# Altium integrated library Linear Technology Power Management Energy Harvesting.IntLib: 169 symbols (part 13 of 13)
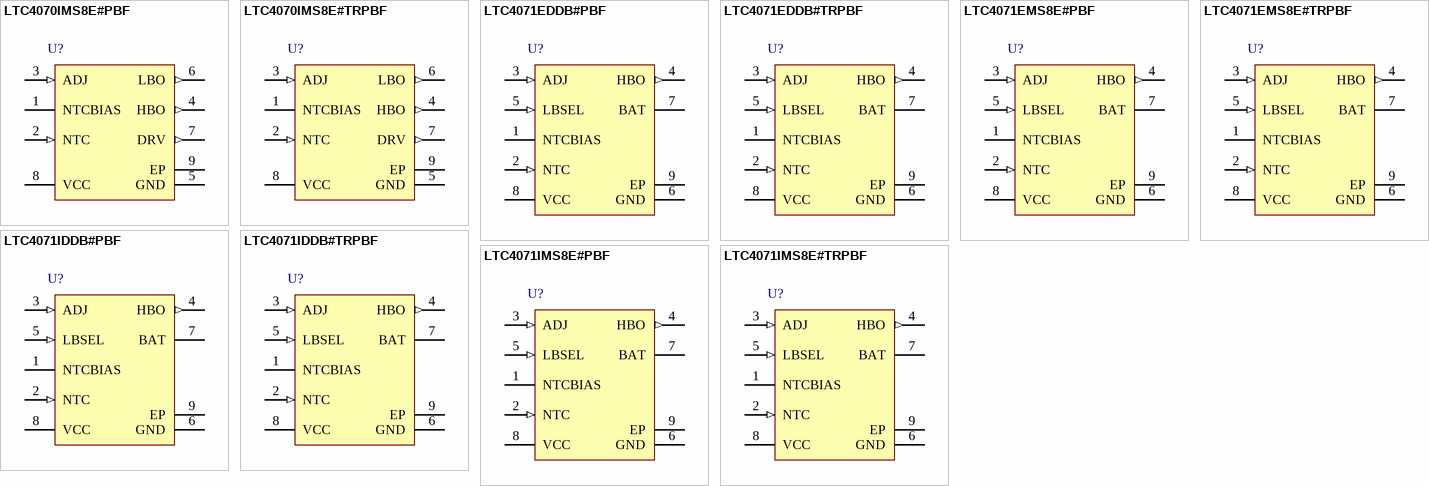
[diagram p17: symbols LTC4070IMS8E#PBF to LTC4071IMS8E#TRPBF]

## LTC4071IDDB#TRPBF
designator U?
Li-Ion / Polymer Shunt Battery Charger System with Low Battery Disconnect, 8-pin SON (DDB-8), -40 to 125 degC, Pb-Free, Tape and Reel; Manufacturer: Linear Technology; PartNumber: LTC4071IDDB#TRPBF; Number of Outputs: 1; DatasheetVersion: Rev. C; PackageVersion: Rev. B, 06/2010; PackageReference: DDB-8; PackageDescription: 8-Pin Plastic DFN, Body 3 x 2 mm, Pitch 0.5 mm; Supplier 1: Digi-Key; Supplier Part Number 1: LTC4071IDDB#TRPBF-ND; Packing: Tape and Reel; RoHS: TRUE; Topology: Shunt Battery Charger; Mounting Technology: Surface Mount; Code_JEDEC: MO-229; ComponentLink1Description: Manufacturer URL; ComponentLink1URL: http://www.linear.com/; ComponentLink2Description: Datasheet; ComponentLink2URL: http://cds.linear.com/docs/en/datasheet/4071fc.pdf; ComponentLink3Description: Package Specification; ComponentLink3URL: http://cds.linear.com/docs/en/packaging/DFN_8_05-08-1702.pdf
footprint LT-DDB-8_V (SON, 8-Leads, Body 3x2mm, Pitch 0.5mm, Thermal Pad 2.2x0.61mm)
pins: 1 NTCBIAS "NTC Bias Pin. Connect a resistor from NTCBIAS to NTC, and a thermistor from NTC to GND. Float NTCBIAS when not in use. Minimize parasitic capacitance on this pin.", 2 NTC (in) "Input to the Negative Temperature Coefficient Thermistor Monitoring Circuit. The NTC pin connects to a negative temperature coefficient thermistor which is typically co-packaged with the battery to determine the temperature (See Datasheet)", 3 ADJ (in) "Float Voltage Adjust Pin. Connect ADJ to GND to program 4.0V float voltage. Disconnect ADJ to program 4.1V float voltage. Connect ADJ to VCC to program 4.2V float voltage. The float voltage is also adjusted by the NTC (See Datasheet)", 4 HBO (out) "High Battery Monitor Output (Active High). HBO is a CMOS output that indicates that the battery is almost fully charged and current is being shunted away from BAT. This pin is driven high when VCC rises to within VHBTH of (See Datasheet)", 5 LBSEL (in) "Low Battery Disconnect Select Pin. Connect LBSEL to GND to select a low battery disconnect level of 3.2V, connect LBSEL to VCC to select a low battery disconnect level of 2.7V. Do not float.", 6 GND (power) "Ground. The exposed package pad has no internal electrical connection but must be connected to PCB ground for maximum heat transfer.", 7 BAT (power) "Battery Pin. Battery charge current is sourced from VCC through this pin when an external supply is present. BAT supplies current to VCC from this pin when no other source of power is available. If BAT falls below VLBD this (See Datasheet)", 8 VCC (power) "Input Supply Pin. Attach system load to this pin. The input supply voltage is regulated to 4.0V, 4.1V, or 4.2V depending on the ADJ pin state (see the ADJ pin description for more detail). This pin can sink up to 50mA in (See Datasheet)", 9 EP (power) "Ground. The exposed package pad has no internal electrical connection but must be connected to PCB ground for maximum heat transfer."

## LTC4071IMS8E#PBF
designator U?
Li-Ion / Polymer Shunt Battery Charger System with Low Battery Disconnect, 8-pin SOP (MS8E-8), -40 to 125 degC, Pb-Free; Manufacturer: Linear Technology; PartNumber: LTC4071IMS8E#PBF; Number of Outputs: 1; DatasheetVersion: Rev. C; PackageVersion: Rev. F; PackageReference: MS8E-8; PackageDescription: 8-Pin Plastic MSOP, Exposed Die Pad, Body 3 x 3 mm, Pitch 0.65 mm; Supplier 1: Digi-Key; Supplier Part Number 1: LTC4071IMS8E#PBF-ND; Supplier 2: Newark; Supplier Part Number 2: 13T8414; RoHS: TRUE; Topology: Shunt Battery Charger; Mounting Technology: Surface Mount; ComponentLink1Description: Manufacturer URL; ComponentLink1URL: http://www.linear.com/; ComponentLink2Description: Datasheet; ComponentLink2URL: http://cds.linear.com/docs/en/datasheet/4071fc.pdf; ComponentLink3Description: Package Specification; ComponentLink3URL: http://cds.linear.com/docs/en/datasheet/3080fc.pdf
footprint LT-MS8E-8-1880X1680TP_N (SOP, 8-Leads, Body 3.1x3.1mm, Pitch 0.65mm, Thermal Pad 1.88x1.68mm, IPC Medium Density)
footprint LT-MS8E-8-1880X1680TP_L (SOP, 8-Leads, Body 3.1x3.1mm, Pitch 0.65mm, Thermal Pad 1.88x1.68mm, IPC High Density)
footprint LT-MS8E-8-1880X1680TP_M (SOP, 8-Leads, Body 3.1x3.1mm, Pitch 0.65mm, Thermal Pad 1.88x1.68mm, IPC Low Density)
pins: 1 NTCBIAS "NTC Bias Pin. Connect a resistor from NTCBIAS to NTC, and a thermistor from NTC to GND. Float NTCBIAS when not in use. Minimize parasitic capacitance on this pin.", 2 NTC (in) "Input to the Negative Temperature Coefficient Thermistor Monitoring Circuit. The NTC pin connects to a negative temperature coefficient thermistor which is typically co-packaged with the battery to determine the temperature (See Datasheet)", 3 ADJ (in) "Float Voltage Adjust Pin. Connect ADJ to GND to program 4.0V float voltage. Disconnect ADJ to program 4.1V float voltage. Connect ADJ to VCC to program 4.2V float voltage. The float voltage is also adjusted by the NTC (See Datasheet)", 4 HBO (out) "High Battery Monitor Output (Active High). HBO is a CMOS output that indicates that the battery is almost fully charged and current is being shunted away from BAT. This pin is driven high when VCC rises to within VHBTH of (See Datasheet)", 5 LBSEL (in) "Low Battery Disconnect Select Pin. Connect LBSEL to GND to select a low battery disconnect level of 3.2V, connect LBSEL to VCC to select a low battery disconnect level of 2.7V. Do not float.", 6 GND (power) "Ground. The exposed package pad has no internal electrical connection but must be connected to PCB ground for maximum heat transfer.", 7 BAT (power) "Battery Pin. Battery charge current is sourced from VCC through this pin when an external supply is present. BAT supplies current to VCC from this pin when no other source of power is available. If BAT falls below VLBD this (See Datasheet)", 8 VCC (power) "Input Supply Pin. Attach system load to this pin. The input supply voltage is regulated to 4.0V, 4.1V, or 4.2V depending on the ADJ pin state (see the ADJ pin description for more detail). This pin can sink up to 50mA in (See Datasheet)", 9 EP (power) "Ground. The exposed package pad has no internal electrical connection but must be connected to PCB ground for maximum heat transfer."

## LTC4071IMS8E#TRPBF
designator U?
Li-Ion / Polymer Shunt Battery Charger System with Low Battery Disconnect, 8-pin SOP (MS8E-8), -40 to 125 degC, Pb-Free, Tape and Reel; Manufacturer: Linear Technology; PartNumber: LTC4071IMS8E#TRPBF; Number of Outputs: 1; DatasheetVersion: Rev. C; PackageVersion: Rev. F; PackageReference: MS8E-8; PackageDescription: 8-Pin Plastic MSOP, Exposed Die Pad, Body 3 x 3 mm, Pitch 0.65 mm; Supplier 1: Digi-Key; Supplier Part Number 1: LTC4071IMS8E#TRPBF-ND; Packing: Tape and Reel; RoHS: TRUE; Topology: Shunt Battery Charger; Mounting Technology: Surface Mount; ComponentLink1Description: Manufacturer URL; ComponentLink1URL: http://www.linear.com/; ComponentLink2Description: Datasheet; ComponentLink2URL: http://cds.linear.com/docs/en/datasheet/4071fc.pdf; ComponentLink3Description: Package Specification; ComponentLink3URL: http://cds.linear.com/docs/en/datasheet/3080fc.pdf
footprint LT-MS8E-8-1880X1680TP_N (SOP, 8-Leads, Body 3.1x3.1mm, Pitch 0.65mm, Thermal Pad 1.88x1.68mm, IPC Medium Density)
footprint LT-MS8E-8-1880X1680TP_L (SOP, 8-Leads, Body 3.1x3.1mm, Pitch 0.65mm, Thermal Pad 1.88x1.68mm, IPC High Density)
footprint LT-MS8E-8-1880X1680TP_M (SOP, 8-Leads, Body 3.1x3.1mm, Pitch 0.65mm, Thermal Pad 1.88x1.68mm, IPC Low Density)
pins: 1 NTCBIAS "NTC Bias Pin. Connect a resistor from NTCBIAS to NTC, and a thermistor from NTC to GND. Float NTCBIAS when not in use. Minimize parasitic capacitance on this pin.", 2 NTC (in) "Input to the Negative Temperature Coefficient Thermistor Monitoring Circuit. The NTC pin connects to a negative temperature coefficient thermistor which is typically co-packaged with the battery to determine the temperature (See Datasheet)", 3 ADJ (in) "Float Voltage Adjust Pin. Connect ADJ to GND to program 4.0V float voltage. Disconnect ADJ to program 4.1V float voltage. Connect ADJ to VCC to program 4.2V float voltage. The float voltage is also adjusted by the NTC (See Datasheet)", 4 HBO (out) "High Battery Monitor Output (Active High). HBO is a CMOS output that indicates that the battery is almost fully charged and current is being shunted away from BAT. This pin is driven high when VCC rises to within VHBTH of (See Datasheet)", 5 LBSEL (in) "Low Battery Disconnect Select Pin. Connect LBSEL to GND to select a low battery disconnect level of 3.2V, connect LBSEL to VCC to select a low battery disconnect level of 2.7V. Do not float.", 6 GND (power) "Ground. The exposed package pad has no internal electrical connection but must be connected to PCB ground for maximum heat transfer.", 7 BAT (power) "Battery Pin. Battery charge current is sourced from VCC through this pin when an external supply is present. BAT supplies current to VCC from this pin when no other source of power is available. If BAT falls below VLBD this (See Datasheet)", 8 VCC (power) "Input Supply Pin. Attach system load to this pin. The input supply voltage is regulated to 4.0V, 4.1V, or 4.2V depending on the ADJ pin state (see the ADJ pin description for more detail). This pin can sink up to 50mA in (See Datasheet)", 9 EP (power) "Ground. The exposed package pad has no internal electrical connection but must be connected to PCB ground for maximum heat transfer."